# Altium integrated library ADI.IntLib: 2 symbols
Pins are listed as number, name and electrical type; pins without a type are passive.

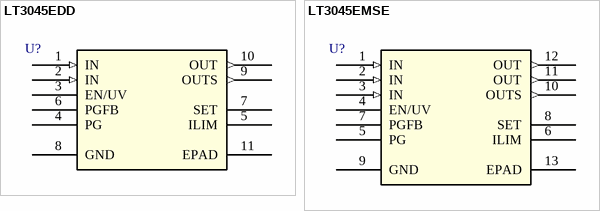
[diagram p0: symbols LT3045EDD to LT3045EMSE]

## LT3045EDD
designator U?
20V, 500mA, Ultralow Noise, Ultrahigh PSRR Linear Regulator; Manufacturer_Part_Number: LT3045EDD#TRPBF; Built_By: EMA_Jessica; Vendor: Analog Devices Inc; Copyright: Copyright (C) 2016 Accelerated Designs. All rights reserved; RefDes: RefDes; Type: DEV; Value: Value
footprint DD10
pins: 1 IN (in), 2 IN (in), 3 EN/UV, 4 PG, 5 ILIM, 6 PGFB, 7 SET, 8 GND (power), 9 OUTS (out), 10 OUT (out), 11 EPAD (power)

## LT3045EMSE
designator U?
20V, 500mA, Ultralow Noise, Ultrahigh PSRR Linear Regulator; Manufacturer_Part_Number: LT3045EMSE#TRPBF; Built_By: EMA_Jessica; Vendor: Analog Devices Inc; Copyright: Copyright (C) 2016 Accelerated Designs. All rights reserved; RefDes: RefDes; Type: DEV; Value: Value
footprint MSE12
pins: 1 IN (in), 2 IN (in), 3 IN (in), 4 EN/UV, 5 PG, 6 ILIM, 7 PGFB, 8 SET, 9 GND (power), 10 OUTS (out), 11 OUT (out), 12 OUT (out), 13 EPAD